# Altium schematic symbol library Connectors.SchLib: 34 symbols
Pins are listed as number, name and electrical type; pins without a type are passive.

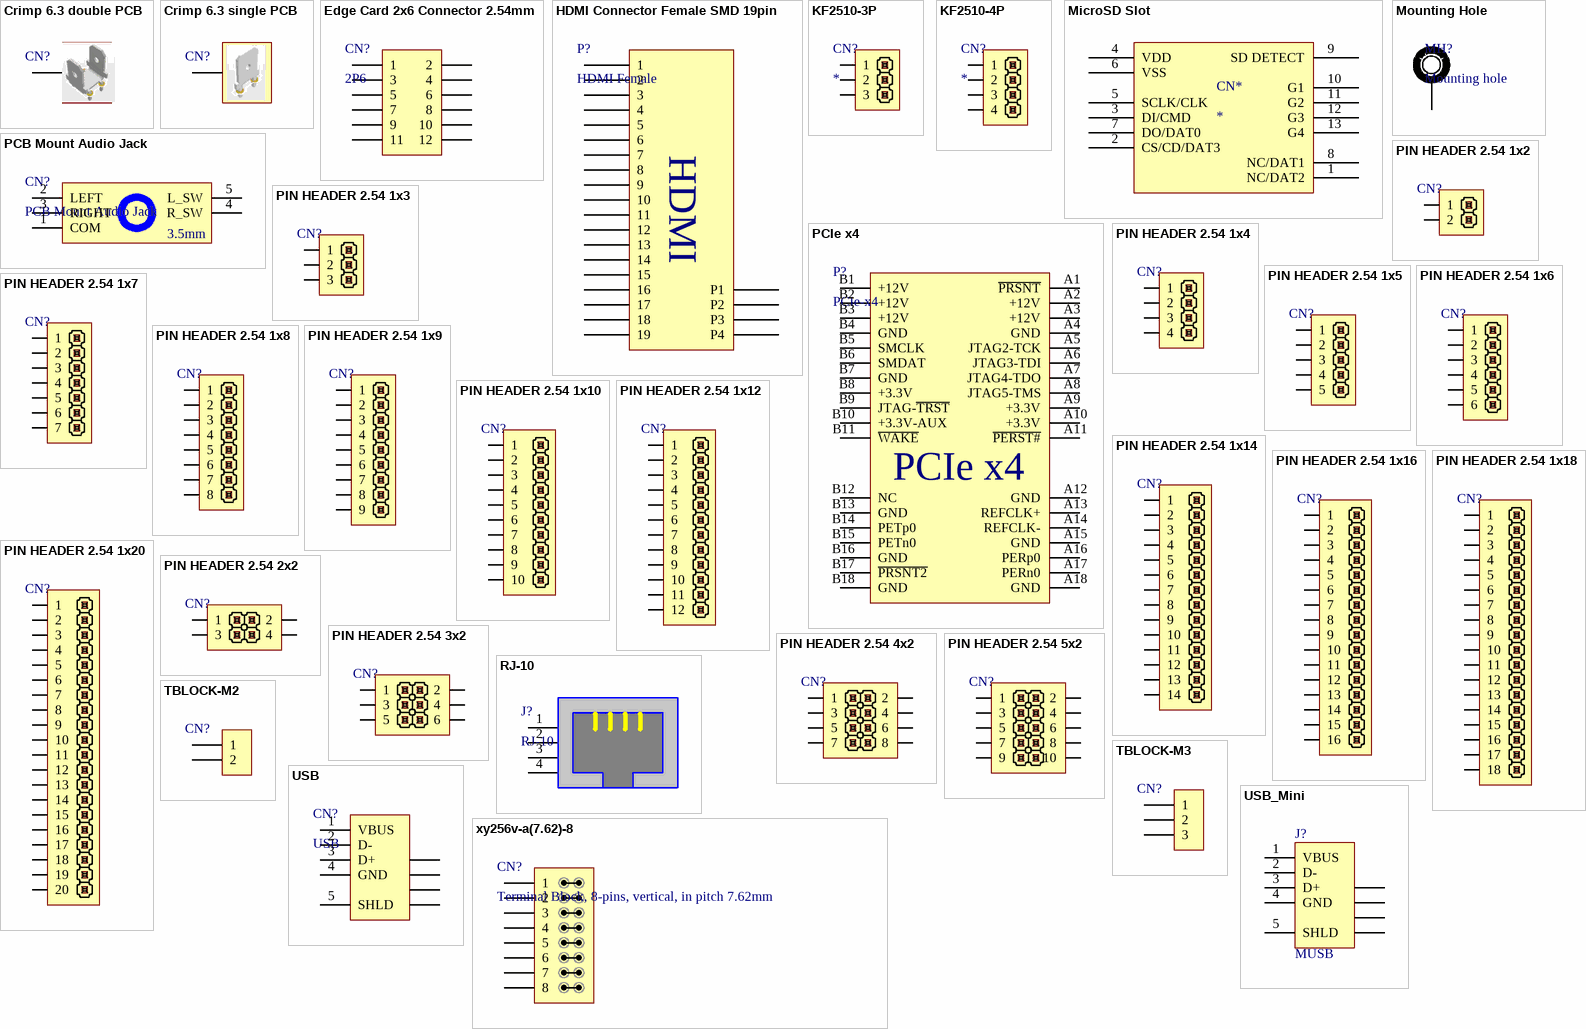
[diagram p0: symbols Crimp 6.3 double PCB to xy256v-a(7.62)-8]

## Crimp 6.3 double PCB
designator CN?
Straight Mount Angle PCB Tab Terminal
footprint Crimp 6.3mm double PCB
pins: 1

## Crimp 6.3 single PCB
designator CN?
Straight Mount Angle PCB Tab Terminal
footprint Crimp 6.3mm single PCB
pins: 1

## Edge Card 2x6 Connector 2.54mm
designator CN?, comment 2P6
footprint Edge Card 2x6 Connector 2.54mm
pins: 1, 2, 3, 4, 5, 6, 7, 8, 9, 10, 11, 12

## HDMI Connector Female SMD 19pin
designator P?, comment HDMI Female
HDMI Connector Female SMD 19pin Socket right angle SMT Mount PCB
footprint HDMI Connector Female 19pin SMD (aliexpress.com/item/32741536509)
pins: 1, 2, 3, 4, 5, 6, 7, 8, 9, 10, 11, 12, 13, 14, 15, 16, 17, 18, 19, P1, P2, P3, P4
text: HDMI

## KF2510-3P
designator CN?
footprint KF2510-3P
pins: 1, 2, 3

## KF2510-4P
designator CN?
footprint KF2510-4P
pins: 1, 2, 3, 4

## MicroSD Slot
designator CN*
footprint MICROSD Slot (MicroSD Card Socket)
pins: 1 NC/DAT2, 2 CS/CD/DAT3, 3 DI/CMD, 4 VDD, 5 SCLK/CLK, 6 VSS, 7 DO/DAT0, 8 NC/DAT1, 9 SD DETECT, 10 G1, 11 G2, 12 G3, 13 G4

## Mounting Hole
designator MH?, comment Mounting hole
footprint MH_M2.5 (Mount hole M2.5)
footprint MH_M2 (Mount hole M2)
footprint MH_M3 (Mount hole M3)
footprint MH_M4 (Mount hole M4)
footprint MH_M5 (Mount hole M5)
footprint MH_M6 (Mount hole M6)
pins: 1

## PCB Mount Audio Jack
designator CN?
footprint PCB Mount Audio Jack
pins: 1 COM, 2 LEFT, 3 RIGHT, 4 R_SW, 5 L_SW
text: 3.5mm

## PCIe x4
designator P?, comment PCIe-x4
footprint PCIe x4 edge connector
pins: A1 ~{PRSNT}, A2 +12V, A3 +12V, A4 GND, A5 JTAG2-TCK, A6 JTAG3-TDI, A7 JTAG4-TDO, A8 JTAG5-TMS, A9 +3.3V, A10 +3.3V, A11 ~{PERST#}, A12 GND, A13 REFCLK+, A14 REFCLK-, A15 GND, A16 PERp0, A17 PERn0, A18 GND, B1 +12V, B2 +12V, B3 +12V, B4 GND, B5 SMCLK, B6 SMDAT, B7 GND, B8 +3.3V, B9 JTAG-~{TRST}, B10 +3.3V-AUX, B11 ~{WAKE}, B12 NC, B13 GND, B14 PETp0, B15 PETn0, B16 GND, B17 ~{PRSNT2}, B18 GND

## PIN HEADER 2.54 1x2
designator CN?, comment PIN HEADER 1x2  (value not drawn)
footprint PIN HEADER SINGLE 2
footprint XH2.54-2P
footprint XH2.54 2P
pins: 1, 2

## PIN HEADER 2.54 1x3
designator CN?, comment PIN HEADER 1x3  (value not drawn)
footprint PIN HEADER SINGLE 3
footprint KF2510-3
footprint XH2.54-3P
footprint XH2.54 3P
pins: 1, 2, 3

## PIN HEADER 2.54 1x4
designator CN?, comment PIN HEADER 1x4  (value not drawn)
footprint PIN HEADER SINGLE 4
footprint XH2.54-4P
footprint XH2.54 4P
pins: 1, 2, 3, 4

## PIN HEADER 2.54 1x5
designator CN?, comment PIN HEADER 1x5  (value not drawn)
footprint PIN HEADER SINGLE 5
footprint XH2.54 5P
pins: 1, 2, 3, 4, 5

## PIN HEADER 2.54 1x6
designator CN?, comment PIN HEADER 1x6  (value not drawn)
footprint PIN HEADER SINGLE 6
footprint XH2.54 6P
pins: 1, 2, 3, 4, 5, 6

## PIN HEADER 2.54 1x7
designator CN?, comment PIN HEADER 1x7  (value not drawn)
footprint PIN HEADER SINGLE 7
footprint XH2.54 7P
pins: 1, 2, 3, 4, 5, 6, 7

## PIN HEADER 2.54 1x8
designator CN?, comment PIN HEADER 1x8  (value not drawn)
footprint PIN HEADER SINGLE 8
footprint XH2.54 8P
pins: 1, 2, 3, 4, 5, 6, 7, 8

## PIN HEADER 2.54 1x9
designator CN?, comment PIN HEADER 1x9  (value not drawn)
footprint PIN HEADER SINGLE 9
footprint XH2.54 9P
pins: 1, 2, 3, 4, 5, 6, 7, 8, 9

## PIN HEADER 2.54 1x10
designator CN?, comment PIN HEADER 1x10  (value not drawn)
footprint PIN HEADER SINGLE 10
footprint XH2.54 10P
pins: 1, 2, 3, 4, 5, 6, 7, 8, 9, 10

## PIN HEADER 2.54 1x12
designator CN?, comment PIN HEADER 1x12  (value not drawn)
footprint PIN HEADER SINGLE 12
footprint XH2.54 12P
pins: 1, 2, 3, 4, 5, 6, 7, 8, 9, 10, 11, 12

## PIN HEADER 2.54 1x14
designator CN?, comment PIN HEADER 1x14  (value not drawn)
footprint PIN HEADER SINGLE 14
footprint XH2.54 14P
pins: 1, 2, 3, 4, 5, 6, 7, 8, 9, 10, 11, 12, 13, 14

## PIN HEADER 2.54 1x16
designator CN?, comment PIN HEADER 1x16  (value not drawn)
footprint PIN HEADER SINGLE 16
footprint XH2.54 16P
pins: 1, 2, 3, 4, 5, 6, 7, 8, 9, 10, 11, 12, 13, 14, 15, 16

## PIN HEADER 2.54 1x18
designator CN?, comment PIN HEADER 1x18  (value not drawn)
footprint PIN HEADER SINGLE 18
footprint XH2.54 18P
pins: 1, 2, 3, 4, 5, 6, 7, 8, 9, 10, 11, 12, 13, 14, 15, 16, 17, 18

## PIN HEADER 2.54 1x20
designator CN?, comment PIN HEADER 1x20  (value not drawn)
footprint PIN HEADER SINGLE 20
footprint XH2.54 20P
pins: 1, 2, 3, 4, 5, 6, 7, 8, 9, 10, 11, 12, 13, 14, 15, 16, 17, 18, 19, 20

## PIN HEADER 2.54 2x2
designator CN?, comment PIN HEADER 2x2  (value not drawn)
footprint PIN HEADER DOUBLE 2x2
pins: 1, 2, 3, 4

## PIN HEADER 2.54 3x2
designator CN?, comment PIN HEADER 3x2  (value not drawn)
footprint PIN HEADER DOUBLE 3x2
pins: 1, 2, 3, 4, 5, 6

## PIN HEADER 2.54 4x2
designator CN?, comment PIN HEADER 4x2  (value not drawn)
footprint PIN HEADER DOUBLE 4x2
pins: 1, 2, 3, 4, 5, 6, 7, 8

## PIN HEADER 2.54 5x2
designator CN?, comment PIN HEADER 5x2  (value not drawn)
footprint PIN HEADER DOUBLE 5x2
pins: 1, 2, 3, 4, 5, 6, 7, 8, 9, 10

## RJ-10
designator J?
footprint RJ-10 MOLEX
pins: 1, 2, 3, 4

## TBLOCK-M2
designator CN?  (value not drawn)
footprint TBLOCK-M2
pins: 1, 2

## TBLOCK-M3
designator CN?  (value not drawn)
footprint TBLOCK-M3 (3 Pin connector)
pins: 1, 2, 3

## USB
designator CN?
Generic USB connector
footprint USB MINI (Connector; USB2.0, Type B, SM; 5 Position; Right Angle)
footprint USB-B
footprint USB-B-U
footprint USB MICRO
footprint USB 2.0 Type A  Female Jacks Connector
footprint USB 2.0 Type A  Male Jacks Connector
pins: 1 VBUS (power) "Power", 2 D- "-DATA", 3 D+ "+DATA", 4 GND (power) "Ground", 5 SHLD "Shield", 6 SHLD "Shield", 7 SHLD "Shield", 8 SHLD "Shield", 9 SHLD "Shield"

## USB_Mini
designator J?, comment MUSB
mini USB; ContactMaterial: Copper Alloy; ContactPlating: Gold (30); PCB_Layout: Complies with manufacturer's recommendation.; DrillSize: Corresponds to nominal value.; PanelGround: Without; Published: 15-Jul-2004; DatasheetDocument: 27-Jun-2003; PackageDocument: 27-Jun-2003; PackageReference: 440247; Publisher: Altium Limited; HousingMaterial: Thermoplastic; ComponentLink1Description: Manufacturer Link; ComponentLink1URL: http://www.tycoelectronics.com/; ComponentLink2Description: Packaging Specification; ComponentLink2URL: http://ecommas.tycoelectronics.com/commerce/DocumentDelivery/DDEController?Action=showdoc&DocId=Customer+Drawing%7F440247%7FD%7Fpdf%7FEnglish%7FC_440247_D.pdf
footprint USB MINI (Connector; USB2.0, Type B, SM; 5 Position; Right Angle)
pins: 1 VBUS (power) "Power", 2 D- "-DATA", 3 D+ "+DATA", 4 GND (power) "Ground", 5 SHLD "Shield", 6 SHLD "Shield", 7 SHLD "Shield", 8 SHLD "Shield", 9 SHLD "Shield"

## xy256v-a(7.62)-8
designator CN?, comment Terminal Block, 8-pins, vertical, in pitch 7.62mm
footprint xy256v-a(7.62)-8 (Terminal: spade terminal strip)
pins: 1, 2, 3, 4, 5, 6, 7, 8